# Altium schematic symbol library PTC_FUSE.SchLib: 1 symbol
Pins are listed as number, name and electrical type; pins without a type are passive.

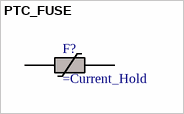
[diagram p0: symbol PTC_FUSE]

## PTC_FUSE
designator F?
pins: 1, 2